# EAGLE library part PUSB3F96X (library PUSB3F96X)
4.6V (Typ) Clamp 5.2A (8/20s) Ipp Tvs Diode Surface Mount DFN2510A-10 Source: Datasheet <https://www.nexperia.com/product/PUSB3F96>
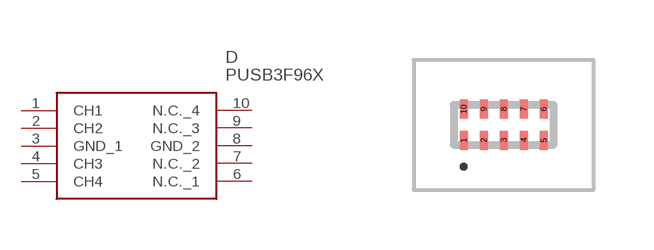
[diagram p0: symbol with the pads of PUSB3F96X; footprint PUSB3F96X]

Designator prefix D

## PUSB3F96X (Description: 4.6V (Typ) Clamp 5.2A (8/20s) Ipp Tvs Diode Surface Mount DFN2510A-10; Height: 0.5mm; Manufacturer_Name: Nexperia; Manufacturer_Part_Number: PUSB3F96X; Mouser_Part_Number: 771-PUSB3F96X; Mouser_Price-Stock: https://www.mouser.co.uk/ProductDetail/Nexperia/PUSB3F96X?qs=y2kkmE52mdOojYwbWuCCFg%3D%3D)  [PUSB3F96X]
1  CH1
2  CH2
3  GND_1
4  CH3
5  CH4
6  N.C._1
7  N.C._2
8  GND_2
9  N.C._3
10  N.C._4

## Footprint PUSB3F96X (pad centres in mm)
PUSB3F96X
smd 0.2 x 0.475: 1 -1,-0.388; 2 -0.5,-0.388; 3 0,-0.388; 4 0.5,-0.388; 5 1,-0.388; 6 1,0.388; 7 0.5,0.388; 8 0,0.388; 9 -0.5,0.388; 10 -1,0.388